# Altium schematic symbol library passive elements.SchLib: 5 symbols
Pins are listed as number, name and electrical type; pins without a type are passive.

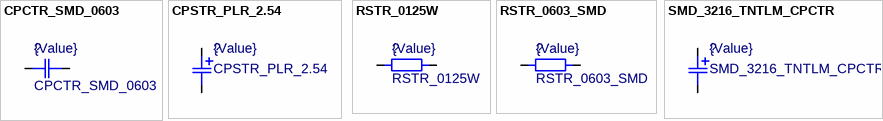
[diagram p0: symbols CPCTR_SMD_0603 to SMD_3216_TNTLM_CPCTR]

## CPCTR_SMD_0603
designator ?  value {Value}
footprint SMD_0603_RSTR
pins: 1, 2

## CPSTR_PLR_2.54
designator ?  value {Value}
footprint CPCTR_PLR_2.54
pins: 1, 2

## RSTR_0125W
designator ?  value {Value}
footprint RSTR_0125
pins: 1, 2

## RSTR_0603_SMD
designator ?  value {Value}
footprint SMD_0603_RSTR
pins: 1, 2

## SMD_3216_TNTLM_CPCTR
designator ?  value {Value}
footprint SMD_3216_CPCTR_TNTLM_SMD_3216_TNTLM_CPCTR(Primary)
pins: 1, 2